# Altium integrated library Analog Devices Data Converters Digital-to-Analog Converters.IntLib: 2231 symbols (part 1 of 181)
Pins are listed as number, name and electrical type; pins without a type are passive.

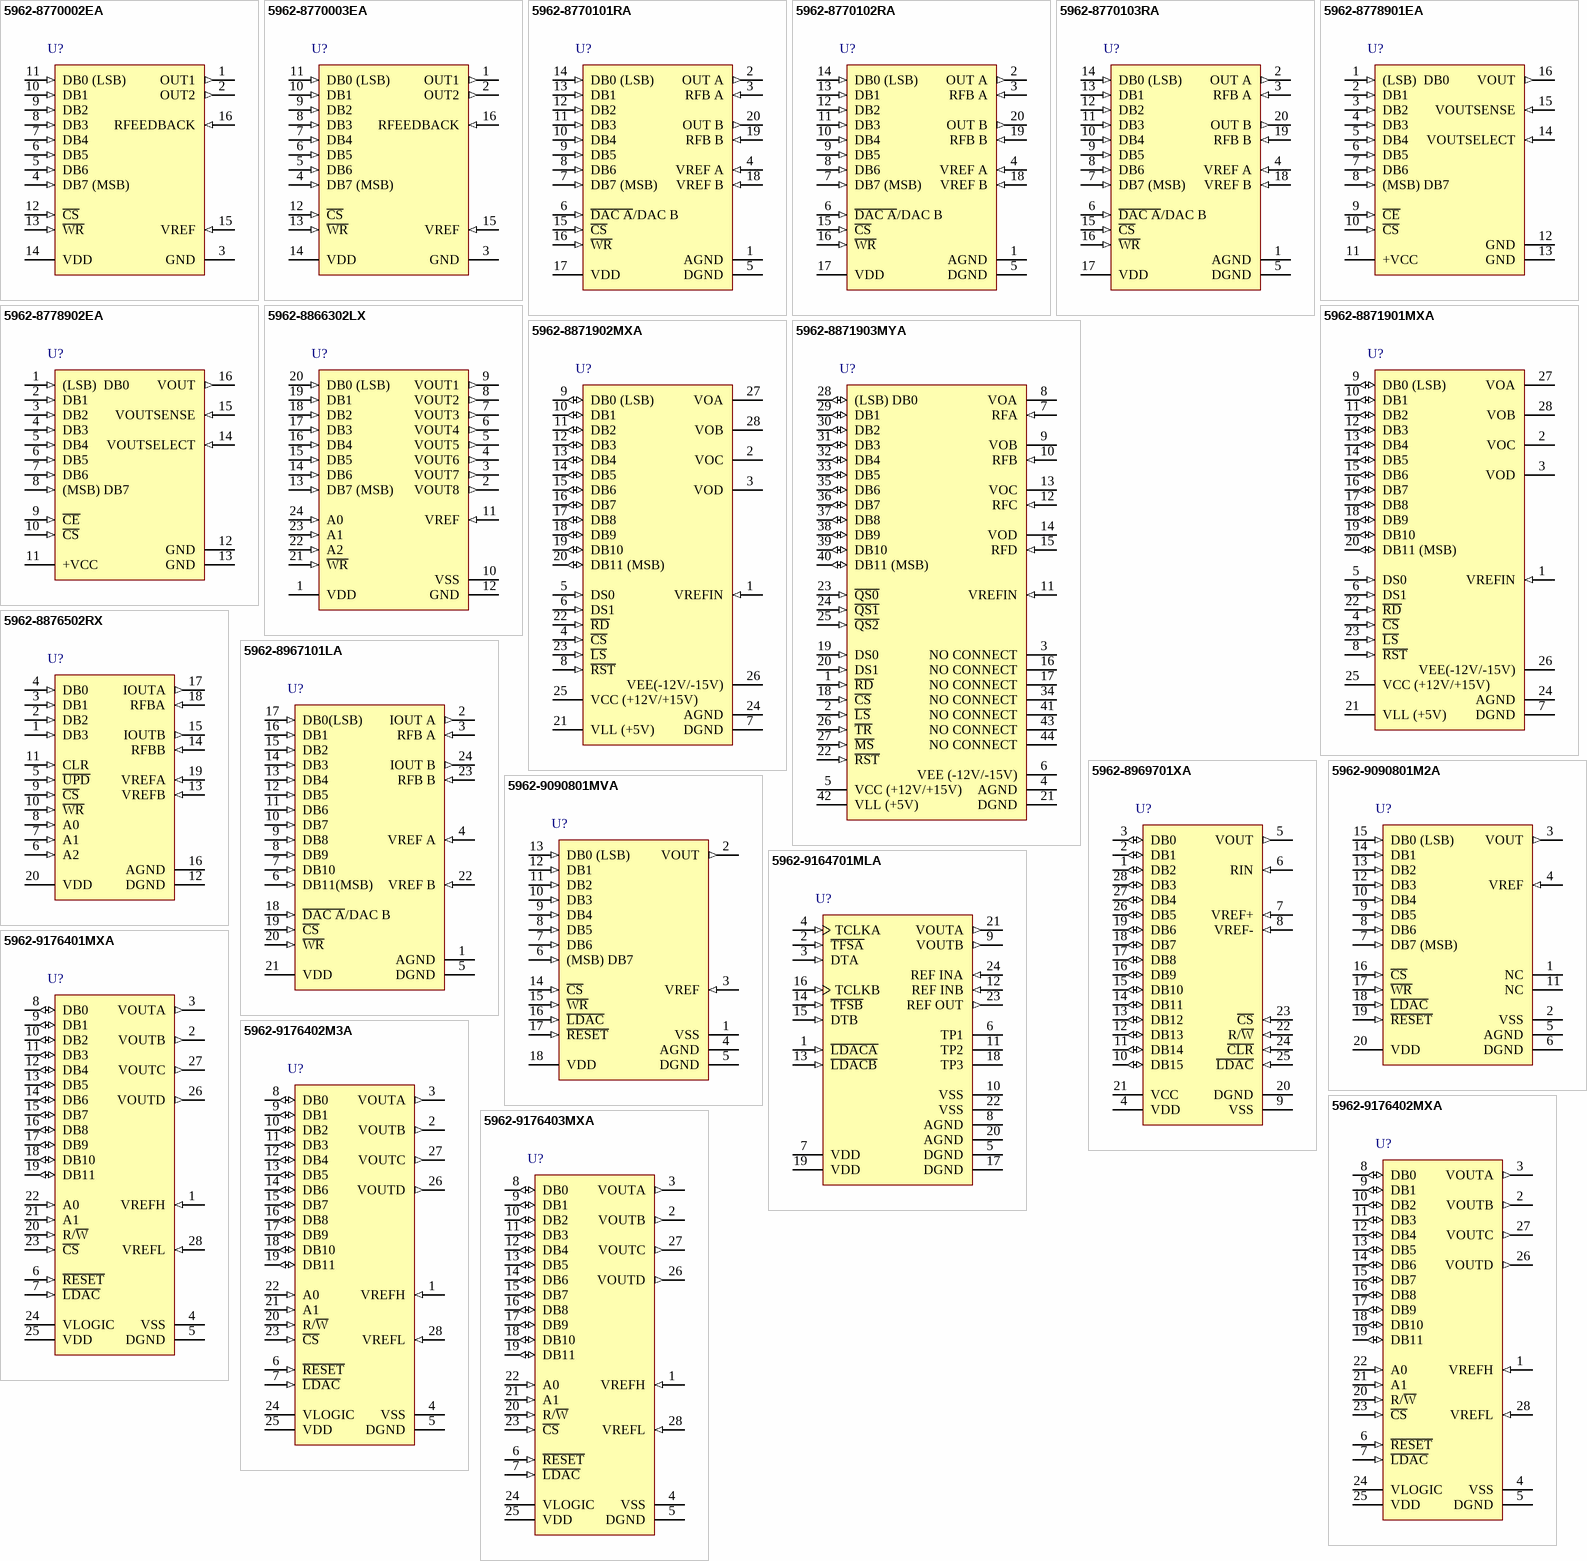
[diagram p0: symbols 5962-8770002EA to 5962-9176403MXA]

## 5962-8770002EA
designator U?
Single 8-Bit Microcircuit Monolithic Silicon Digital-to-Analog Converter, -55 to +125 degC, Q-16, Tube; Generic Part Number: AD7524; Manufacturer: Analog Devices; PartNumber: 5962-8770002EA; # DAC Outputs: 1; Max V+: 15V; Op Pwr Diss: 30mW; Resolution (Bits): 8; Settling Time: 250ns; Single Supply: Yes; DatasheetVersion: Rev.B; PackageVersion: 1996; PackageReference: Q-16; PackageDescription: DIP, 16-Pin, Skinny Dual In-line Package, 300mil Wide, Pitch 2.54 mm; Supplier 1: Mouser; Supplier Part Number 1: 584-5962-8770002EA; Packing: Tube; RoHS: N; Mounting Technology: Through Hole; ComponentLink1Description: Manufacturer URL; ComponentLink1URL: http://www.analog.com/en/index.html; ComponentLink2Description: Datasheet; ComponentLink2URL: http://www.dscc.dla.mil/downloads/milspec/smd/87700.pdf; ComponentLink3Description: Package Specification; ComponentLink3URL: http://www.analog.com/static/imported-files/packages/54083157002221Q_16.pdf; ComponentLink4Description: Product URL; ComponentLink4URL: http://www.analog.com/en/digital-to-analog-converters/da-converters/ad7524/products/product.html
footprint Q-16 (DIP, 16-Leads, Row Spacing 7.62mm, Pitch 2.54mm, Body 20.07x6.73mm)
pins: 1 OUT1 (out), 2 OUT2 (out), 3 GND (power), 4 DB7 (MSB) (in), 5 DB6 (in), 6 DB5 (in), 7 DB4 (in), 8 DB3 (in), 9 DB2 (in), 10 DB1 (in), 11 DB0 (LSB) (in), 12 ~{CS} (in), 13 ~{WR} (in), 14 VDD (power), 15 VREF (in), 16 RFEEDBACK (in)

## 5962-8770003EA
designator U?
Single 8-Bit Microcircuit Monolithic Silicon Digital-to-Analog Converter, -55 to +125 degC, Q-16, Tube; Generic Part Number: AD7524; Manufacturer: Analog Devices; PartNumber: 5962-8770003EA; # DAC Outputs: 1; Max V+: 15V; Op Pwr Diss: 30mW; Resolution (Bits): 8; Settling Time: 250ns; Single Supply: Yes; DatasheetVersion: Rev.B; PackageVersion: 1996; PackageReference: Q-16; PackageDescription: DIP, 16-Pin, Skinny Dual In-line Package, 300mil Wide, Pitch 2.54 mm; Supplier 1: Mouser; Supplier Part Number 1: 584-5962-8770003EA; Packing: Tube; RoHS: N; Mounting Technology: Through Hole; ComponentLink1Description: Manufacturer URL; ComponentLink1URL: http://www.analog.com/en/index.html; ComponentLink2Description: Datasheet; ComponentLink2URL: http://www.dscc.dla.mil/downloads/milspec/smd/87700.pdf; ComponentLink3Description: Package Specification; ComponentLink3URL: http://www.analog.com/static/imported-files/packages/54083157002221Q_16.pdf; ComponentLink4Description: Product URL; ComponentLink4URL: http://www.analog.com/en/digital-to-analog-converters/da-converters/ad7524/products/product.html
footprint Q-16 (DIP, 16-Leads, Row Spacing 7.62mm, Pitch 2.54mm, Body 20.07x6.73mm)
pins: 1 OUT1 (out), 2 OUT2 (out), 3 GND (power), 4 DB7 (MSB) (in), 5 DB6 (in), 6 DB5 (in), 7 DB4 (in), 8 DB3 (in), 9 DB2 (in), 10 DB1 (in), 11 DB0 (LSB) (in), 12 ~{CS} (in), 13 ~{WR} (in), 14 VDD (power), 15 VREF (in), 16 RFEEDBACK (in)

## 5962-8770101RA
designator U?
Dual 8-Bit Buffered Multiplying CMOS Digital-to-Analog Converter, -55 to +125 degC, Q-20, Tube; Generic Part Number: AD7528; Manufacturer: Analog Devices; PartNumber: 5962-8770101RA; # DAC Outputs: 2; Max V+: 15V; Op Pwr Diss: 30mW; Resolution (Bits): 8; Settling Time: 180ns; Single Supply: Yes; DatasheetVersion: Rev.B; PackageVersion: Dec-2004; PackageReference: Q-20; PackageDescription: 20-Lead Ceramic Dual In-Line Package [CERDIP]; Supplier 1: Mouser; Supplier Part Number 1: 584-5962-8770101RA; Packing: Tube; RoHS: N; Mounting Technology: Through Hole; ComponentLink1Description: Manufacturer URL; ComponentLink1URL: http://www.analog.com/en/index.html; ComponentLink2Description: Datasheet; ComponentLink2URL: http://www.analog.com/static/imported-files/data_sheets/AD7528.pdf; ComponentLink3Description: Package Specification; ComponentLink3URL: http://www.analog.com/static/imported-files/packages/50516416473314Q_20.pdf; ComponentLink4Description: Product URL; ComponentLink4URL: http://www.analog.com/en/digital-to-analog-converters/da-converters/ad7528/products/product.html
footprint Q-20 (DIP, 20-Leads, Row Spacing 7.62mm, Pitch 2.54mm, Body 25.9x6.7mm)
pins: 1 AGND (power), 2 OUT A (out), 3 RFB A (in), 4 VREF A (in), 5 DGND (power), 6 ~{DAC A}/DAC B (in), 7 DB7 (MSB)  (in), 8 DB6 (in), 9 DB5 (in), 10 DB4 (in), 11 DB3 (in), 12 DB2 (in), 13 DB1 (in), 14 DB0 (LSB) (in), 15 ~{CS} (in), 16 ~{WR} (in), 17 VDD (power), 18 VREF B (in), 19 RFB B (in), 20 OUT B (out)

## 5962-8770102RA
designator U?
Dual 8-Bit Buffered Multiplying CMOS Digital-to-Analog Converter, -55 to +125 degC, Q-20, Tube; Generic Part Number: AD7528; Manufacturer: Analog Devices; PartNumber: 5962-8770102RA; # DAC Outputs: 2; Max V+: 15V; Op Pwr Diss: 30mW; Resolution (Bits): 8; Settling Time: 180ns; Single Supply: Yes; DatasheetVersion: Rev.B; PackageVersion: Dec-2004; PackageReference: Q-20; PackageDescription: 20-Lead Ceramic Dual In-Line Package [CERDIP]; Supplier 1: Mouser; Supplier Part Number 1: 584-5962-8770102RA; Packing: Tube; RoHS: N; Mounting Technology: Through Hole; ComponentLink1Description: Manufacturer URL; ComponentLink1URL: http://www.analog.com/en/index.html; ComponentLink2Description: Datasheet; ComponentLink2URL: http://www.analog.com/static/imported-files/data_sheets/AD7528.pdf; ComponentLink3Description: Package Specification; ComponentLink3URL: http://www.analog.com/static/imported-files/packages/50516416473314Q_20.pdf; ComponentLink4Description: Product URL; ComponentLink4URL: http://www.analog.com/en/digital-to-analog-converters/da-converters/ad7528/products/product.html
footprint Q-20 (DIP, 20-Leads, Row Spacing 7.62mm, Pitch 2.54mm, Body 25.9x6.7mm)
pins: 1 AGND (power), 2 OUT A (out), 3 RFB A (in), 4 VREF A (in), 5 DGND (power), 6 ~{DAC A}/DAC B (in), 7 DB7 (MSB)  (in), 8 DB6 (in), 9 DB5 (in), 10 DB4 (in), 11 DB3 (in), 12 DB2 (in), 13 DB1 (in), 14 DB0 (LSB) (in), 15 ~{CS} (in), 16 ~{WR} (in), 17 VDD (power), 18 VREF B (in), 19 RFB B (in), 20 OUT B (out)

## 5962-8770103RA
designator U?
Dual 8-Bit Buffered Multiplying CMOS Digital-to-Analog Converter, -55 to +125 degC, Q-20, Tube; Generic Part Number: AD7528; Manufacturer: Analog Devices; PartNumber: 5962-8770103RA; # DAC Outputs: 2; Max V+: 15V; Op Pwr Diss: 30mW; Resolution (Bits): 8; Settling Time: 180ns; Single Supply: Yes; DatasheetVersion: Rev.B; PackageVersion: Dec-2004; PackageReference: Q-20; PackageDescription: 20-Lead Ceramic Dual In-Line Package [CERDIP]; Supplier 1: Mouser; Supplier Part Number 1: 584-5962-8770103RA; Packing: Tube; RoHS: N; Mounting Technology: Through Hole; ComponentLink1Description: Manufacturer URL; ComponentLink1URL: http://www.analog.com/en/index.html; ComponentLink2Description: Datasheet; ComponentLink2URL: http://www.analog.com/static/imported-files/data_sheets/AD7528.pdf; ComponentLink3Description: Package Specification; ComponentLink3URL: http://www.analog.com/static/imported-files/packages/50516416473314Q_20.pdf; ComponentLink4Description: Product URL; ComponentLink4URL: http://www.analog.com/en/digital-to-analog-converters/da-converters/ad7528/products/product.html
footprint Q-20 (DIP, 20-Leads, Row Spacing 7.62mm, Pitch 2.54mm, Body 25.9x6.7mm)
pins: 1 AGND (power), 2 OUT A (out), 3 RFB A (in), 4 VREF A (in), 5 DGND (power), 6 ~{DAC A}/DAC B (in), 7 DB7 (MSB)  (in), 8 DB6 (in), 9 DB5 (in), 10 DB4 (in), 11 DB3 (in), 12 DB2 (in), 13 DB1 (in), 14 DB0 (LSB) (in), 15 ~{CS} (in), 16 ~{WR} (in), 17 VDD (power), 18 VREF B (in), 19 RFB B (in), 20 OUT B (out)

## 5962-8778901EA
designator U?
Single 8-Bit Microcircuit Monolithic Silicon Digital-to-Analog Converter, -55 to +125 degC, D-16, Tube; Generic Part Number: AD558; Manufacturer: Analog Devices; PartNumber: 5962-8778901EA; # DAC Outputs: 1; Max V+: 16.5V; Op Pwr Diss: 375mW; Resolution (Bits): 8; Settling Time: 800ns; Single Supply: Yes; DatasheetVersion: Rev.C; PackageVersion: Oct-2004; PackageReference: D-16; PackageDescription: 16-Lead Side-Brazed Ceramic Dual In-Line Package [SBDIP]; Supplier 1: Mouser; Supplier Part Number 1: 584-5962-8778901EA; Packing: Tube; RoHS: N; Mounting Technology: Through Hole; ComponentLink1Description: Manufacturer URL; ComponentLink1URL: http://www.analog.com/en/index.html; ComponentLink2Description: Datasheet; ComponentLink2URL: http://www.dscc.dla.mil/Downloads/MilSpec/Smd/87789.pdf; ComponentLink3Description: Package Specification; ComponentLink3URL: http://www.analog.com/static/imported-files/packages/411773807540737148809448D_16.pdf; ComponentLink4Description: Product URL; ComponentLink4URL: http://www.analog.com/en/digital-to-analog-converters/da-converters/ad558/products/product.html
footprint D-16 (DIP, 16-Leads, Row Spacing 7.62mm, Pitch 2.54mm, Body 21.3x6.7mm)
pins: 1 (LSB)  DB0 (in), 2 DB1 (in), 3 DB2 (in), 4 DB3 (in), 5 DB4 (in), 6 DB5 (in), 7 DB6 (in), 8 (MSB) DB7 (in), 9 ~{CE} (in), 10 ~{CS} (in), 11 +VCC (power), 12 GND (power), 13 GND (power), 14 VOUTSELECT (in), 15 VOUTSENSE (in), 16 VOUT (out)

## 5962-8778902EA
designator U?
Single 8-Bit Microcircuit Monolithic Silicon Digital-to-Analog Converter, -55 to +125 degC, D-16, Tube; Generic Part Number: AD558; Manufacturer: Analog Devices; PartNumber: 5962-8778902EA; # DAC Outputs: 1; Max V+: 16.5V; Op Pwr Diss: 375mW; Resolution (Bits): 8; Settling Time: 800ns; Single Supply: Yes; DatasheetVersion: Rev.C; PackageVersion: Oct-2004; PackageReference: D-16; PackageDescription: 16-Lead Side-Brazed Ceramic Dual In-Line Package [SBDIP]; Supplier 1: Mouser; Supplier Part Number 1: 584-5962-8778902EA; Packing: Tube; RoHS: N; Mounting Technology: Through Hole; ComponentLink1Description: Manufacturer URL; ComponentLink1URL: http://www.analog.com/en/index.html; ComponentLink2Description: Datasheet; ComponentLink2URL: http://www.dscc.dla.mil/Downloads/MilSpec/Smd/87789.pdf; ComponentLink3Description: Package Specification; ComponentLink3URL: http://www.analog.com/static/imported-files/packages/411773807540737148809448D_16.pdf; ComponentLink4Description: Product URL; ComponentLink4URL: http://www.analog.com/en/digital-to-analog-converters/da-converters/ad558/products/product.html
footprint D-16 (DIP, 16-Leads, Row Spacing 7.62mm, Pitch 2.54mm, Body 21.3x6.7mm)
pins: 1 (LSB)  DB0 (in), 2 DB1 (in), 3 DB2 (in), 4 DB3 (in), 5 DB4 (in), 6 DB5 (in), 7 DB6 (in), 8 (MSB) DB7 (in), 9 ~{CE} (in), 10 ~{CS} (in), 11 +VCC (power), 12 GND (power), 13 GND (power), 14 VOUTSELECT (in), 15 VOUTSENSE (in), 16 VOUT (out)

## 5962-8866302LX
designator U?
Octal 8-Bit Microcircuit Monolithic Silicon Digital-to-Analog Converter, -55 to +125 degC, Q-24-1, Tube; Generic Part Number: AD7228; Manufacturer: Analog Devices; PartNumber: 5962-8866302LX; # DAC Outputs: 8; Max V+: 16.5V; Op Pwr Diss: 310mW; Settling Time: 5µs; Single Supply: Yes; DatasheetVersion: Rev.A; PackageVersion: 100808-A; PackageReference: Q-24-1; PackageDescription: 24-Lead Ceramic Dual In-Line Package [CERDIP]; Supplier 1: Mouser; Supplier Part Number 1: 584-5962-8866302LX; Packing: Tube; Resolution (Bits): 8; RoHS: N; Mounting Technology: Through Hole; ComponentLink1Description: Manufacturer URL; ComponentLink1URL: http://www.analog.com/en/index.html; ComponentLink2Description: Datasheet; ComponentLink2URL: http://www.dscc.dla.mil/downloads/milspec/smd/88663.pdf; ComponentLink3Description: Package Specification; ComponentLink3URL: http://www.analog.com/static/imported-files/packages/PKG_PDF/CERDIP(Q)/Q_24_1.pdf; ComponentLink4Description: Product URL; ComponentLink4URL: http://www.analog.com/en/digital-to-analog-converters/da-converters/ad7228/products/product.html
footprint Q-24-1 (DIP, 24-Leads, Row Spacing 7.62mm, Pitch 2.54mm, Body 31.9x6.7mm)
pins: 1 VDD (power), 2 VOUT8 (out), 3 VOUT7 (out), 4 VOUT6 (out), 5 VOUT5 (out), 6 VOUT4 (out), 7 VOUT3 (out), 8 VOUT2 (out), 9 VOUT1 (out), 10 VSS (power), 11 VREF (in), 12 GND (power), 13 DB7 (MSB) (in), 14 DB6 (in), 15 DB5 (in), 16 DB4 (in), 17 DB3 (in), 18 DB2 (in), 19 DB1 (in), 20 DB0 (LSB) (in), 21 ~{WR} (in), 22 A2 (in), 23 A1 (in), 24 A0 (in)

## 5962-8871901MXA
designator U?
Quad 12-Bit Monolithic Digital-to-Analog Converter, -55 to +125 degC, D-28-2, Tube; Generic Part Number: AD664; Manufacturer: Analog Devices; PartNumber: 5962-8871901MXA; # DAC Outputs: 4; Max V+: 16.5V; Op Pwr Diss: 525mW; Resolution (Bits): 12; Settling Time: 8µs; Single Supply: No; DatasheetVersion: Rev.D; PackageVersion: Oct-2004; PackageReference: D-28-2; PackageDescription: 28-Lead Side-Brazed Ceramic Dual In-Line Package [SBDIP]; Supplier 1: Mouser; Supplier Part Number 1: 584-5962-8871901MXA; Packing: Tube; RoHS: N; Mounting Technology: Through Hole; ComponentLink1Description: Manufacturer URL; ComponentLink1URL: http://www.analog.com/en/index.html; ComponentLink2Description: Datasheet; ComponentLink2URL: http://www.analog.com/static/imported-files/data_sheets/AD664.pdf; ComponentLink3Description: Package Specification; ComponentLink3URL: http://www.analog.com/static/imported-files/packages/28824602D_28_2.pdf; ComponentLink4Description: Product URL; ComponentLink4URL: http://www.analog.com/en/digital-to-analog-converters/da-converters/ad664/products/product.html
footprint D-28-2 (DIP, 28-Leads, Row Spacing 15.24mm, Pitch 2.54mm, Body 37.2x14.1mm)
pins: 1 VREFIN (in), 2 VOC (hiz), 3 VOD (hiz), 4 ~{CS} (in), 5 DS0 (in), 6 DS1 (in), 7 DGND (power), 8 ~{RST} (in), 9 DB0 (LSB) (io), 10 DB1 (io), 11 DB2 (io), 12 DB3 (io), 13 DB4 (io), 14 DB5 (io), 15 DB6 (io), 16 DB7 (io), 17 DB8 (io), 18 DB9 (io), 19 DB10 (io), 20 DB11 (MSB) (io), 21 VLL (+5V) (power), 22 ~{RD} (in), 23 ~{LS} (in), 24 AGND (power), 25 VCC (+12V/+15V) (power), 26 VEE(-12V/-15V) (power), 27 VOA (hiz), 28 VOB (hiz)

## 5962-8871902MXA
designator U?
Quad 12-Bit Monolithic Digital-to-Analog Converter, -55 to +125 degC, D-28-2, Tube; Generic Part Number: AD664; Manufacturer: Analog Devices; PartNumber: 5962-8871902MXA; # DAC Outputs: 4; Max V+: 16.5V; Op Pwr Diss: 525mW; Resolution (Bits): 12; Settling Time: 8µs; Single Supply: No; DatasheetVersion: Rev.D; PackageVersion: Oct-2004; PackageReference: D-28-2; PackageDescription: 28-Lead Side-Brazed Ceramic Dual In-Line Package [SBDIP]; Supplier 1: Mouser; Supplier Part Number 1: 584-5962-8871902MXA; Packing: Tube; RoHS: N; Mounting Technology: Through Hole; ComponentLink1Description: Manufacturer URL; ComponentLink1URL: http://www.analog.com/en/index.html; ComponentLink2Description: Datasheet; ComponentLink2URL: http://www.analog.com/static/imported-files/data_sheets/AD664.pdf; ComponentLink3Description: Package Specification; ComponentLink3URL: http://www.analog.com/static/imported-files/packages/28824602D_28_2.pdf; ComponentLink4Description: Product URL; ComponentLink4URL: http://www.analog.com/en/digital-to-analog-converters/da-converters/ad664/products/product.html
footprint D-28-2 (DIP, 28-Leads, Row Spacing 15.24mm, Pitch 2.54mm, Body 37.2x14.1mm)
pins: 1 VREFIN (in), 2 VOC (hiz), 3 VOD (hiz), 4 ~{CS} (in), 5 DS0 (in), 6 DS1 (in), 7 DGND (power), 8 ~{RST} (in), 9 DB0 (LSB) (io), 10 DB1 (io), 11 DB2 (io), 12 DB3 (io), 13 DB4 (io), 14 DB5 (io), 15 DB6 (io), 16 DB7 (io), 17 DB8 (io), 18 DB9 (io), 19 DB10 (io), 20 DB11 (MSB) (io), 21 VLL (+5V) (power), 22 ~{RD} (in), 23 ~{LS} (in), 24 AGND (power), 25 VCC (+12V/+15V) (power), 26 VEE(-12V/-15V) (power), 27 VOA (hiz), 28 VOB (hiz)

## 5962-8871903MYA
designator U?
Quad 12-Bit Monolithic Digital-to-Analog Converter, -55 to +125 degC, E-44-1, Tube; Generic Part Number: AD664; Manufacturer: Analog Devices; PartNumber: 5962-8871903MYA; # DAC Outputs: 4; Max V+: 16.5V; Op Pwr Diss: 525mW; Resolution (Bits): 12; Settling Time: 8µs; Single Supply: No; DatasheetVersion: Rev.D; PackageVersion: 022106-A; PackageReference: E-44-1; PackageDescription: 44-Terminal Ceramic Leadless Chip Carrier [LCC]; Supplier 1: Mouser; Supplier Part Number 1: 584-5962-8871903MYA; Packing: Tube; RoHS: N; Mounting Technology: Surface Mount; ComponentLink1Description: Manufacturer URL; ComponentLink1URL: http://www.analog.com/en/index.html; ComponentLink2Description: Datasheet; ComponentLink2URL: http://www.analog.com/static/imported-files/data_sheets/AD664.pdf; ComponentLink3Description: Package Specification; ComponentLink3URL: http://www.analog.com/static/imported-files/packages/PKG_PDF/LCC(E)/E_44_1.pdf; ComponentLink4Description: Product URL; ComponentLink4URL: http://www.analog.com/en/digital-to-analog-converters/da-converters/ad664/products/product.html
footprint E-44-1_N (Leadless Chip Carrier, 44-Leads, Body 16.5x16.5mm, Pitch 1.27mm, IPC Medium Density)
footprint E-44-1_L (Leadless Chip Carrier, 44-Leads, Body 16.5x16.5mm, Pitch 1.27mm, IPC High Density)
footprint E-44-1_M (Leadless Chip Carrier, 44-Leads, Body 16.5x16.5mm, Pitch 1.27mm, IPC Low Density)
pins: 1 ~{RD} (in), 2 ~{LS} (in), 3 NO CONNECT, 4 AGND (power), 5 VCC (+12V/+15V) (power), 6 VEE (-12V/-15V) (power), 7 RFA (in), 8 VOA (hiz), 9 VOB (hiz), 10 RFB (in), 11 VREFIN (in), 12 RFC (in), 13 VOC (hiz), 14 VOD (hiz), 15 RFD (in), 16 NO CONNECT, 17 NO CONNECT, 18 ~{CS} (in), 19 DS0 (in), 20 DS1 (in), 21 DGND (power), 22 ~{RST} (in), 23 ~{QS0} (in), 24 ~{QS1} (in), 25 ~{QS2} (in), 26 ~{TR} (in), 27 ~{MS} (in), 28 (LSB) DB0 (io), 29 DB1 (io), 30 DB2 (io), 31 DB3 (io), 32 DB4 (io), 33 DB5 (io), 34 NO CONNECT, 35 DB6 (io), 36 DB7 (io), 37 DB8 (io), 38 DB9 (io), 39 DB10 (io), 40 DB11 (MSB) (io), 41 NO CONNECT, 42 VLL (+5V) (power), 43 NO CONNECT, 44 NO CONNECT

## 5962-8876502RX
designator U?
Dual 12-Bit uP-Compatible Digital-to-Analog Converter, -55 to +125 degC, N-28-2, Tube; Generic Part Number: AD7549; Manufacturer: Analog Devices; PartNumber: 5962-8876502RX; # DAC Outputs: 2; Max V+: 15.75V; Op Pwr Diss: 75mW; Resolution (Bits): 12; Settling Time: 1.5µs; Single Supply: Yes; DatasheetVersion: Rev.A; PackageVersion: 071006-A; PackageReference: N-28-2; PackageDescription: 28-Lead Plastic Dual In-Line Package [PDIP]; Supplier 1: Mouser; Supplier Part Number 1: 584-5962-8876502RX; Packing: Tube; RoHS: N; Mounting Technology: Through Hole; Code_JEDEC: MS-011; ComponentLink1Description: Manufacturer URL; ComponentLink1URL: http://www.analog.com/en/index.html; ComponentLink2Description: Datasheet; ComponentLink2URL: http://www.analog.com/static/imported-files/data_sheets/AD7549.pdf; ComponentLink3Description: Package Specification; ComponentLink3URL: http://www.analog.com/static/imported-files/packages/50849324123784N_28_2.pdf; ComponentLink4Description: Product URL; ComponentLink4URL: http://www.analog.com/en/digital-to-analog-converters/da-converters/ad7549/products/product.html
footprint N-28-2 (DIP, 28-Leads, Row Spacing 15.55mm, Pitch 2.54mm, Body 37.4x13.5mm)
pins: 1 DB3 (in) "Data Bit 3, Data Bit 7 or Data Bit 11(MSB)", 2 DB2 (in) "Data Bit 2, Data Bit 6 or Data Bit 10.", 3 DB1 (in) "Data Bit 1, Data Bit 5 or Data Bit 9.", 4 DB0 (in) "Data Bit 0, Data Bit 4 or Data Bit 8.", 5 ~{UPD} (in) "Updates DAC Registers from 4-bit input registers. DAC A and DAC B both updated simultaneously.", 6 A2 (in) "Address line 2.", 7 A1 (in) "Address line 1.", 8 A0 (in) "Address line 0.", 9 ~{CS} (in) "Chip Select Input. Active low.", 10 ~{WR} (in) "Write Input. Active low.", 11 CLR (in) "Clear Input. Active High. Clears all registers.", 12 DGND (power) "Digital Ground.", 13 VREFB (in) "Voltage reference input to DAC B.", 14 RFBB (in) "Feedback resistor of DAC B.", 15 IOUTB (out) "Current output terminal of DAC B.", 16 AGND (power) "Analog ground.", 17 IOUTA (out) "Current output terminal of DAC A.", 18 RFBA (in) "Feedback resistor of DAC A.", 19 VREFA (in) "Voltage reference input to DAC A.", 20 VDD (power) "+15 V supply input."

## 5962-8967101LA
designator U?
Dual 12-Bit Microcircuit Buffered Multiplying Digital-to-Analog Converter, -40 to +85 degC, Q-24-1, Tube; Generic Part Number: DAC8221; Manufacturer: Analog Devices; PartNumber: 5962-8967101LA; # DAC Outputs: 2; Max V+: 15.75V; Op Pwr Diss: 5mW; Resolution (Bits): 12; Settling Time: 450ns; Single Supply: Yes; DatasheetVersion: Rev.B; PackageVersion: 100808-A; PackageReference: Q-24-1; PackageDescription: 24-Lead Ceramic Dual In-Line Package [CERDIP]; Supplier 1: Mouser; Supplier Part Number 1: 584-5962-8967101LA; Packing: Tube; RoHS: N; Mounting Technology: Through Hole; ComponentLink1Description: Manufacturer URL; ComponentLink1URL: http://www.analog.com/en/index.html; ComponentLink2Description: Datasheet; ComponentLink2URL: http://www.dscc.dla.mil/Downloads/MilSpec/Smd/89671.pdf; ComponentLink3Description: Package Specification; ComponentLink3URL: http://www.analog.com/static/imported-files/packages/PKG_PDF/CERDIP(Q)/Q_24_1.pdf; ComponentLink4Description: Product URL; ComponentLink4URL: http://www.analog.com/en/digital-to-analog-converters/da-converters/dac8221/products/product.html
footprint Q-24-1 (DIP, 24-Leads, Row Spacing 7.62mm, Pitch 2.54mm, Body 31.9x6.7mm)
pins: 1 AGND (power), 2 IOUT A (out), 3 RFB A (in), 4 VREF A (in), 5 DGND (power), 6 DB11(MSB)  (in), 7 DB10 (in), 8 DB9 (in), 9 DB8 (in), 10 DB7 (in), 11 DB6 (in), 12 DB5 (in), 13 DB4 (in), 14 DB3 (in), 15 DB2 (in), 16 DB1 (in), 17 DB0(LSB) (in), 18 ~{DAC A}/DAC B (in), 19 ~{CS} (in), 20 ~{WR} (in), 21 VDD (power), 22 VREF B (in), 23 RFB B (in), 24 IOUT B (out)

## 5962-8969701XA
designator U?
Single 16-Bit Microcircuit Monolithic Silicon Digital-to-Analog Converter, -55 to +125 degC, Q-28-2, Tube; Generic Part Number: AD7846; Manufacturer: Analog Devices; PartNumber: 5962-8969701XA; # DAC Outputs: 1; Max V+: 15.75V; Op Pwr Diss: 155mW; Resolution (Bits): 16; Settling Time: 7µs; Single Supply: No; DatasheetVersion: Rev.B; PackageVersion: 030106-A; PackageReference: Q-28-2; PackageDescription: 28-Lead Ceramic Dual In-Line Package [CERDIP]; Supplier 1: Mouser; Supplier Part Number 1: 584-5962-8969701XA; Packing: Tube; RoHS: N; Mounting Technology: Through Hole; ComponentLink1Description: Manufacturer URL; ComponentLink1URL: http://www.analog.com/en/index.html; ComponentLink2Description: Datasheet; ComponentLink2URL: http://www.dscc.dla.mil/downloads/milspec/smd/89697.pdf; ComponentLink3Description: Package Specification; ComponentLink3URL: http://www.analog.com/static/imported-files/packages/4045339666127361303Q_28_2.pdf; ComponentLink4Description: Product URL; ComponentLink4URL: http://www.analog.com/en/digital-to-analog-converters/da-converters/ad7846/products/product.html
footprint Q-28-2 (DIP, 28-Leads, Row Spacing 15.24mm, Pitch 2.54mm, Body 37.2x14.1mm)
pins: 1 DB2 (io) "Data I/O.", 2 DB1 (io) "Data I/O.", 3 DB0 (io) "Data I/O. DB0 is LSB.", 4 VDD (power) "Positive Supply for Analog Circuitry. This is +15 V nominal.", 5 VOUT (out) "DAC Output Voltage.", 6 RIN (in) "Input to Summing Resistor of DAC Output Amplifier. This is used to select output voltage ranges.", 7 VREF+ (in) "VREF+ Input. The DAC is specified for VREF+ = +5 V.", 8 VREF- (in) "VREF- Input. For unipolar operation connect VREF- to 0 V, and for bipolar operation connect it to -5 V. The device is specified for both conditions.", 9 VSS (power) "Negative Supply for the Analog Circuitry. This is -15 V nominal.", 10 DB15 (io) "Data I/O. DB15 is MSB.", 11 DB14 (io) "Data I/O.", 12 DB13 (io) "Data I/O.", 13 DB12 (io) "Data I/O.", 14 DB11 (io) "Data I/O.", 15 DB10 (io) "Data I/O.", 16 DB9 (io) "Data I/O.", 17 DB8 (io) "Data I/O.", 18 DB7 (io) "Data I/O.", 19 DB6 (io) "Data I/O.", 20 DGND (power) "Ground for Digital Circuitry.", 21 VCC (power) "Positive Supply for Digital Circuitry. This is +5 V nominal.", 22 R/~{W} (in) "R/W\ Input. This pin can be used to load data to the DAC or to read back the DAC latch contents.", 23 ~{CS} (in) "Chip Select Input. This pin selects the device.", 24 ~{CLR} (in) "Clear Input. The DAC can be cleared to 000...000 or 100...000.", 25 ~{LDAC} (in) "Asynchronous Load Input to DAC.", 26 DB5 (io) "Data I/O.", 27 DB4 (io) "Data I/O.", 28 DB3 (io) "Data I/O."

## 5962-9090801M2A
designator U?
Single 8-Bit LC2MOS Digital-to-Analog Converter with Output Amplifiers, 0 to +70 degC, E-20-1, Tube; Generic Part Number: AD7224; Manufacturer: Analog Devices; PartNumber: 5962-9090801M2A; # DAC Outputs: 1; Max V+: 16.5V; Op Pwr Diss: 75mW; Resolution (Bits): 8; Settling Time: 7µs; Single Supply: Yes; DatasheetVersion: Rev.B; PackageVersion: 022106-A; PackageReference: E-20-1; PackageDescription: 20-Terminal Ceramic Leadless Chip Carrier [LCC]; Supplier 1: Mouser; Supplier Part Number 1: 584-5962-9090801M2A; Packing: Tube; RoHS: N; Mounting Technology: Surface Mount; ComponentLink1Description: Manufacturer URL; ComponentLink1URL: http://www.analog.com/en/index.html; ComponentLink2Description: Datasheet; ComponentLink2URL: http://www.analog.com/static/imported-files/data_sheets/AD7224.pdf; ComponentLink3Description: Package Specification; ComponentLink3URL: http://www.analog.com/static/imported-files/packages/PKG_PDF/LCC(E)/E_20_1.pdf; ComponentLink4Description: Product URL; ComponentLink4URL: http://www.analog.com/en/digital-to-analog-converters/da-converters/ad7224/products/product.html
footprint E-20-1_N (Leadless Chip Carrier, 20-Leads, Body 8.9x8.9mm, Pitch 1.27mm, IPC Medium Density)
footprint E-20-1_L (Leadless Chip Carrier, 20-Leads, Body 8.9x8.9mm, Pitch 1.27mm, IPC High Density)
footprint E-20-1_M (Leadless Chip Carrier, 20-Leads, Body 8.9x8.9mm, Pitch 1.27mm, IPC Low Density)
pins: 1 NC, 2 VSS (power), 3 VOUT (out), 4 VREF (in), 5 AGND (power), 6 DGND (power), 7 DB7 (MSB)  (in), 8 DB6 (in), 9 DB5 (in), 10 DB4 (in), 11 NC, 12 DB3 (in), 13 DB2 (in), 14 DB1 (in), 15 DB0 (LSB) (in), 16 ~{CS} (in), 17 ~{WR} (in), 18 ~{LDAC} (in), 19 ~{RESET} (in), 20 VDD (power)

## 5962-9090801MVA
designator U?
Single 8-Bit LC2MOS Digital-to-Analog Converter with Output Amplifiers, 0 to +70 degC, Q-18, Tube; Generic Part Number: AD7224; Manufacturer: Analog Devices; PartNumber: 5962-9090801MVA; # DAC Outputs: 1; Max V+: 16.5V; Op Pwr Diss: 75mW; Resolution (Bits): 8; Settling Time: 7µs; Single Supply: Yes; DatasheetVersion: Rev.B; PackageReference: Q-18; PackageDescription: DIP, Ceramic, 18-Pin, Skinny Dual In-line Package, 300mil Wide, Pitch 2.54 mm; Supplier 1: Mouser; Supplier Part Number 1: 584-5962-9090801MVA; Packing: Tube; RoHS: N; Mounting Technology: Through Hole; ComponentLink1Description: Manufacturer URL; ComponentLink1URL: http://www.analog.com/en/index.html; ComponentLink2Description: Datasheet; ComponentLink2URL: http://www.analog.com/static/imported-files/data_sheets/AD7224.pdf; ComponentLink3Description: Package Specification; ComponentLink3URL: http://www.analog.com/static/imported-files/packages/3949539816247344490Q_18.pdf; ComponentLink4Description: Product URL; ComponentLink4URL: http://www.analog.com/en/digital-to-analog-converters/da-converters/ad7224/products/product.html
footprint Q-18 (DIP, 18-Leads, Row Spacing 7.62mm, Pitch 2.54mm, Body 24.13x6.73mm)
pins: 1 VSS (power), 2 VOUT (out), 3 VREF (in), 4 AGND (power), 5 DGND (power), 6 (MSB) DB7 (in), 7 DB6 (in), 8 DB5 (in), 9 DB4 (in), 10 DB3 (in), 11 DB2 (in), 12 DB1 (in), 13 DB0 (LSB) (in), 14 ~{CS} (in), 15 ~{WR} (in), 16 ~{LDAC} (in), 17 ~{RESET} (in), 18 VDD (power)

## 5962-9164701MLA
designator U?
Dual 14-Bit LC2MOS Digital-to-Analog Converter, -55 to +125 degC, Q-24-1, Tube; Generic Part Number: AD7244; Manufacturer: Analog Devices; PartNumber: 5962-9164701MLA; # DAC Outputs: 2; Max V+: 5.25V; Op Pwr Diss: 195mW; Resolution (Bits): 14; Settling Time: 4µs; Single Supply: No; DatasheetVersion: Rev.A; PackageVersion: 100808-A; PackageReference: Q-24-1; PackageDescription: 24-Lead Ceramic Dual In-Line Package [CERDIP]; Supplier 1: Mouser; Supplier Part Number 1: 584-5962-9164701MLA; Packing: Tube; RoHS: N; Mounting Technology: Through Hole; ComponentLink1Description: Manufacturer URL; ComponentLink1URL: http://www.analog.com/en/index.html; ComponentLink2Description: Datasheet; ComponentLink2URL: http://www.analog.com/static/imported-files/data_sheets/AD7242_7244.pdf; ComponentLink3Description: Package Specification; ComponentLink3URL: http://www.analog.com/static/imported-files/packages/PKG_PDF/CERDIP(Q)/Q_24_1.pdf; ComponentLink4Description: Product URL; ComponentLink4URL: http://www.analog.com/en/digital-to-analog-converters/da-converters/ad7244/products/product.html
footprint Q-24-1 (DIP, 24-Leads, Row Spacing 7.62mm, Pitch 2.54mm, Body 31.9x6.7mm)
pins: 1 ~{LDACA} (in) "Load DAC, Logic Input. A new word is transferred into DAC Latch A from input Latch A on the falling edge of this signal. If L\D\A\C\A\ is hard-wired low, data is transferred from input Latch A to DAC Latch A on the sixteenth (See Datasheet)", 2 ~{TFSA} (in) "Transmit Frame Synchronization, Logic Input. This is a frame or synchronization signal for DACA data with serial data expected after the falling edge of this signal.", 3 DTA (in) "Transmit Data, Logic Input. This is the data input which is used in conjunction with T\F\S\A\ and TCLKA to transfer serial data to input Latch A.", 4 TCLKA (in) "Transmit Clock, Logic Input. Serial data bits for DACA are latched on the falling edge of TCLKA when T\F\S\A\ is low.", 5 DGND (power) "Digital Ground. Both DGND pins for the device must be tied together at the device.", 6 TP1 "Test Pin 1. Used when testing the device. Do not connect anything to this pin.", 7 VDD (power) "Positive Power Supply, 5 V +/- 5%. Both VDD pins for the device must be tied together at the device.", 8 AGND (power) "Analog Ground. Both AGND pins for the device must be tied together at the device.", 9 VOUTB (out) "Analog Output Voltage from DACB. This output comes from a buffer amplifier. The range is bipolar, +/-3 V with REF INB = +3 V.", 10 VSS (power) "Negative Power Supply, -5 V +/- 5%. Both VSS pins for the device must be tied together at the device.", 11 TP2 "Test Pin 2. Used when testing the device. Do not connect anything to this pin.", 12 REF INB (in) "DACB Voltage Reference Input. The voltage reference for DACB is applied to this pin. It is internally buffered before being applied to DACB. The nominal reference voltage for correct operation of the AD7244 is 3 V.", 13 ~{LDACB} (in) "Load DAC, Logic Input. A new word is transferred into DAC Latch B from input Latch B on the falling edge of this signal. If L\D\A\C\B\ is hard-wired low, data is transferred from input Latch B to DAC Latch B on the sixteenth (See Datasheet)", 14 ~{TFSB} (in) "Transmit Frame Synchronization, Logic Input. This is a frame or synchronization signal for DACB data with serial data expected after the falling edge of this signal.", 15 DTB (in) "Transmit Data, Logic Input. This is the data input used in conjunction with T\F\S\B\ and TCLKB to transfer serial data to input Latch B.", 16 TCLKB (in) "Transmit Clock, Logic Input. Serial data bits for DACB are latched on the falling edge of TCLKB when T\F\S\B\ is low.", 17 DGND (power) "Digital Ground. Both DGND pins for the device must be tied together at the device.", 18 TP3 "Test Pin 3. Used when testing the device. Do not connect anything to this pin.", 19 VDD (power) "Positive Power Supply, 5 V +/- 5%. Both VDD pins for the device must be tied together at the device.", 20 AGND (power) "Analog Ground. Both AGND pins for the device must be tied together at the device.", 21 VOUTA (out) "Analog Output Voltage from DACA. This output comes from a buffer amplifier. The range is bipolar, +/-3 V with REF INA = +3 V.", 22 VSS (power) "Negative Power Supply, -5 V +/- 5%. Both VSS pins for the device must be tied together at the device.", 23 REF OUT (out) "Voltage Reference Output. To operate the DACs with this internal reference, REF OUT should be connected to both REF INA and REF INB. The external load capability of the reference is 500 uA.", 24 REF INA (in) "DACA Voltage Reference Input. The voltage reference for DACA is applied to this pin. It is internally buffered before being applied to DACA. The nominal reference voltage for correct operation of the AD7244 is 3 V."

## 5962-9176401MXA
designator U?
Quad 12-Bit Microcircuit Digital-Liner Digital-to-Analog Converter, -55 to +125 degC, Q-28-2, Tube; Generic Part Number: DAC8412; Manufacturer: Analog Devices; PartNumber: 5962-9176401MXA; # DAC Outputs: 4; Max V+: 15.75V; Op Pwr Diss: 330mW; Resolution (Bits): 12; Settling Time: 6µs; Single Supply: No; DatasheetVersion: Rev.B; PackageVersion: 030106-A; PackageReference: Q-28-2; PackageDescription: 28-Lead Ceramic Dual In-Line Package [CERDIP]; Supplier 1: Mouser; Supplier Part Number 1: 584-5962-9176401MXA; Packing: Tube; RoHS: N; Mounting Technology: Through Hole; ComponentLink1Description: Manufacturer URL; ComponentLink1URL: http://www.analog.com/en/index.html; ComponentLink2Description: Datasheet; ComponentLink2URL: http://www.dscc.dla.mil/Downloads/MilSpec/Smd/91764.pdf; ComponentLink3Description: Package Specification; ComponentLink3URL: http://www.analog.com/static/imported-files/packages/4045339666127361303Q_28_2.pdf; ComponentLink4Description: Product URL; ComponentLink4URL: http://www.analog.com/en/digital-to-analog-converters/da-converters/dac8412/products/product.html
footprint Q-28-2 (DIP, 28-Leads, Row Spacing 15.24mm, Pitch 2.54mm, Body 37.2x14.1mm)
pins: 1 VREFH (in) "High-Side DAC Reference Input.", 2 VOUTB (out) "DAC B Output.", 3 VOUTA (out) "DAC A Output.", 4 VSS (power) "Lower Rail Power Supply.", 5 DGND (power) "Digital Ground.", 6 ~{RESET} (in) "Reset Input and Output Registers to all 0s, Enabled at Active Low.", 7 ~{LDAC} (in) "Load Data to DAC, Enabled at Active Low.", 8 DB0 (io) "Data Bit 0, LSB.", 9 DB1 (io) "Data Bit 1.", 10 DB2 (io) "Data Bit 2.", 11 DB3 (io) "Data Bit 3.", 12 DB4 (io) "Data Bit 4.", 13 DB5 (io) "Data Bit 5.", 14 DB6 (io) "Data Bit 6.", 15 DB7 (io) "Data Bit 7.", 16 DB8 (io) "Data Bit 8.", 17 DB9 (io) "Data Bit 9.", 18 DB10 (io) "Data Bit 10.", 19 DB11 (io) "Data Bit 11, MSB.", 20 R/~{W} (in) "Active Low to Write Data to DAC. Active high to readback previous data at data bit pins with VLOGIC connected to 5 V.", 21 A1 (in) "Address Bit 1.", 22 A0 (in) "Address Bit 0.", 23 ~{CS} (in) "Chip Select, Enabled at Active Low.", 24 VLOGIC (power) "Voltage Supply for Readback Function. Can be open circuit if not used.", 25 VDD (power) "Upper Rail Power Supply.", 26 VOUTD (out) "DAC D Output.", 27 VOUTC (out) "DAC C Output.", 28 VREFL (in) "Low-Side DAC Reference Input."

## 5962-9176402M3A
designator U?
Quad 12-Bit Microcircuit Digital-Liner Digital-to-Analog Converter, -55 to +125 degC, E-28-1, Tube; Generic Part Number: DAC8412; Manufacturer: Analog Devices; PartNumber: 5962-9176402M3A; # DAC Outputs: 4; Max V+: 15.75V; Op Pwr Diss: 330mW; Resolution (Bits): 12; Settling Time: 6µs; Single Supply: No; DatasheetVersion: Rev.B; PackageVersion: 022106-A; PackageReference: E-28-1; PackageDescription: 28-Terminal Ceramic Leadless Chip Carrier [LCC]; Supplier 1: Mouser; Supplier Part Number 1: 584-5962-9176402M3A; Packing: Tube; RoHS: N; Mounting Technology: Surface Mount; ComponentLink1Description: Manufacturer URL; ComponentLink1URL: http://www.analog.com/en/index.html; ComponentLink2Description: Datasheet; ComponentLink2URL: http://www.dscc.dla.mil/Downloads/MilSpec/Smd/91764.pdf; ComponentLink3Description: Package Specification; ComponentLink3URL: http://www.analog.com/static/imported-files/packages/PKG_PDF/LCC(E)/E_28_1.pdf; ComponentLink4Description: Product URL; ComponentLink4URL: http://www.analog.com/en/digital-to-analog-converters/da-converters/dac8412/products/product.html
footprint E-28-1_N (Leadless Chip Carrier, 28-Leads, Body 11.4x11.4mm, Pitch 1.27mm, IPC Medium Density)
footprint E-28-1_L (Leadless Chip Carrier, 28-Leads, Body 11.4x11.4mm, Pitch 1.27mm, IPC High Density)
footprint E-28-1_M (Leadless Chip Carrier, 28-Leads, Body 11.4x11.4mm, Pitch 1.27mm, IPC Low Density)
pins: 1 VREFH (in) "High-Side DAC Reference Input.", 2 VOUTB (out) "DAC B Output.", 3 VOUTA (out) "DAC A Output.", 4 VSS (power) "Lower Rail Power Supply.", 5 DGND (power) "Digital Ground.", 6 ~{RESET} (in) "Reset Input and Output Registers to all 0s, Enabled at Active Low.", 7 ~{LDAC} (in) "Load Data to DAC, Enabled at Active Low.", 8 DB0 (io) "Data Bit 0, LSB.", 9 DB1 (io) "Data Bit 1.", 10 DB2 (io) "Data Bit 2.", 11 DB3 (io) "Data Bit 3.", 12 DB4 (io) "Data Bit 4.", 13 DB5 (io) "Data Bit 5.", 14 DB6 (io) "Data Bit 6.", 15 DB7 (io) "Data Bit 7.", 16 DB8 (io) "Data Bit 8.", 17 DB9 (io) "Data Bit 9.", 18 DB10 (io) "Data Bit 10.", 19 DB11 (io) "Data Bit 11, MSB.", 20 R/~{W} (in) "Active Low to Write Data to DAC. Active high to readback previous data at data bit pins with VLOGIC connected to 5 V.", 21 A1 (in) "Address Bit 1.", 22 A0 (in) "Address Bit 0.", 23 ~{CS} (in) "Chip Select, Enabled at Active Low.", 24 VLOGIC (power) "Voltage Supply for Readback Function. Can be open circuit if not used.", 25 VDD (power) "Upper Rail Power Supply.", 26 VOUTD (out) "DAC D Output.", 27 VOUTC (out) "DAC C Output.", 28 VREFL (in) "Low-Side DAC Reference Input."

## 5962-9176402MXA
designator U?
Quad 12-Bit Microcircuit Digital-Liner Digital-to-Analog Converter, -55 to +125 degC, Q-28-2, Tube; Generic Part Number: DAC8412; Manufacturer: Analog Devices; PartNumber: 5962-9176402MXA; # DAC Outputs: 4; Max V+: 15.75V; Op Pwr Diss: 330mW; Resolution (Bits): 12; Settling Time: 6µs; Single Supply: No; DatasheetVersion: Rev.B; PackageVersion: 030106-A; PackageReference: Q-28-2; PackageDescription: 28-Lead Ceramic Dual In-Line Package [CERDIP]; Supplier 1: Mouser; Supplier Part Number 1: 584-5962-9176402MXA; Packing: Tube; RoHS: N; Mounting Technology: Through Hole; ComponentLink1Description: Manufacturer URL; ComponentLink1URL: http://www.analog.com/en/index.html; ComponentLink2Description: Datasheet; ComponentLink2URL: http://www.dscc.dla.mil/Downloads/MilSpec/Smd/91764.pdf; ComponentLink3Description: Package Specification; ComponentLink3URL: http://www.analog.com/static/imported-files/packages/4045339666127361303Q_28_2.pdf; ComponentLink4Description: Product URL; ComponentLink4URL: http://www.analog.com/en/digital-to-analog-converters/da-converters/dac8412/products/product.html
footprint Q-28-2 (DIP, 28-Leads, Row Spacing 15.24mm, Pitch 2.54mm, Body 37.2x14.1mm)
pins: 1 VREFH (in) "High-Side DAC Reference Input.", 2 VOUTB (out) "DAC B Output.", 3 VOUTA (out) "DAC A Output.", 4 VSS (power) "Lower Rail Power Supply.", 5 DGND (power) "Digital Ground.", 6 ~{RESET} (in) "Reset Input and Output Registers to all 0s, Enabled at Active Low.", 7 ~{LDAC} (in) "Load Data to DAC, Enabled at Active Low.", 8 DB0 (io) "Data Bit 0, LSB.", 9 DB1 (io) "Data Bit 1.", 10 DB2 (io) "Data Bit 2.", 11 DB3 (io) "Data Bit 3.", 12 DB4 (io) "Data Bit 4.", 13 DB5 (io) "Data Bit 5.", 14 DB6 (io) "Data Bit 6.", 15 DB7 (io) "Data Bit 7.", 16 DB8 (io) "Data Bit 8.", 17 DB9 (io) "Data Bit 9.", 18 DB10 (io) "Data Bit 10.", 19 DB11 (io) "Data Bit 11, MSB.", 20 R/~{W} (in) "Active Low to Write Data to DAC. Active high to readback previous data at data bit pins with VLOGIC connected to 5 V.", 21 A1 (in) "Address Bit 1.", 22 A0 (in) "Address Bit 0.", 23 ~{CS} (in) "Chip Select, Enabled at Active Low.", 24 VLOGIC (power) "Voltage Supply for Readback Function. Can be open circuit if not used.", 25 VDD (power) "Upper Rail Power Supply.", 26 VOUTD (out) "DAC D Output.", 27 VOUTC (out) "DAC C Output.", 28 VREFL (in) "Low-Side DAC Reference Input."

## 5962-9176403MXA
designator U?
Quad 12-Bit Microcircuit Digital-Liner Digital-to-Analog Converter, -55 to +125 degC, Q-28-2, Tube; Generic Part Number: DAC8413; Manufacturer: Analog Devices; PartNumber: 5962-9176403MXA; # DAC Outputs: 4; Max V+: 15.75V; Op Pwr Diss: 330mW; Resolution (Bits): 12; Settling Time: 6µs; Single Supply: Yes; DatasheetVersion: Rev.B; PackageVersion: 030106-A; PackageReference: Q-28-2; PackageDescription: 28-Lead Ceramic Dual In-Line Package [CERDIP]; Supplier 1: Mouser; Supplier Part Number 1: 584-5962-9176403MXA; Packing: Tube; RoHS: N; Mounting Technology: Through Hole; ComponentLink1Description: Manufacturer URL; ComponentLink1URL: http://www.analog.com/en/index.html; ComponentLink2Description: Datasheet; ComponentLink2URL: http://www.dscc.dla.mil/Downloads/MilSpec/Smd/91764.pdf; ComponentLink3Description: Package Specification; ComponentLink3URL: http://www.analog.com/static/imported-files/packages/4045339666127361303Q_28_2.pdf; ComponentLink4Description: Product URL; ComponentLink4URL: http://www.analog.com/en/digital-to-analog-converters/da-converters/dac8413/products/product.html
footprint Q-28-2 (DIP, 28-Leads, Row Spacing 15.24mm, Pitch 2.54mm, Body 37.2x14.1mm)
pins: 1 VREFH (in) "High-Side DAC Reference Input.", 2 VOUTB (out) "DAC B Output.", 3 VOUTA (out) "DAC A Output.", 4 VSS (power) "Lower Rail Power Supply.", 5 DGND (power) "Digital Ground.", 6 ~{RESET} (in) "Reset Input and Output Registers to all 0s, Enabled at Active Low.", 7 ~{LDAC} (in) "Load Data to DAC, Enabled at Active Low.", 8 DB0 (io) "Data Bit 0, LSB.", 9 DB1 (io) "Data Bit 1.", 10 DB2 (io) "Data Bit 2.", 11 DB3 (io) "Data Bit 3.", 12 DB4 (io) "Data Bit 4.", 13 DB5 (io) "Data Bit 5.", 14 DB6 (io) "Data Bit 6.", 15 DB7 (io) "Data Bit 7.", 16 DB8 (io) "Data Bit 8.", 17 DB9 (io) "Data Bit 9.", 18 DB10 (io) "Data Bit 10.", 19 DB11 (io) "Data Bit 11, MSB.", 20 R/~{W} (in) "Active Low to Write Data to DAC. Active high to readback previous data at data bit pins with VLOGIC connected to 5 V.", 21 A1 (in) "Address Bit 1.", 22 A0 (in) "Address Bit 0.", 23 ~{CS} (in) "Chip Select, Enabled at Active Low.", 24 VLOGIC (power) "Voltage Supply for Readback Function. Can be open circuit if not used.", 25 VDD (power) "Upper Rail Power Supply.", 26 VOUTD (out) "DAC D Output.", 27 VOUTC (out) "DAC C Output.", 28 VREFL (in) "Low-Side DAC Reference Input."

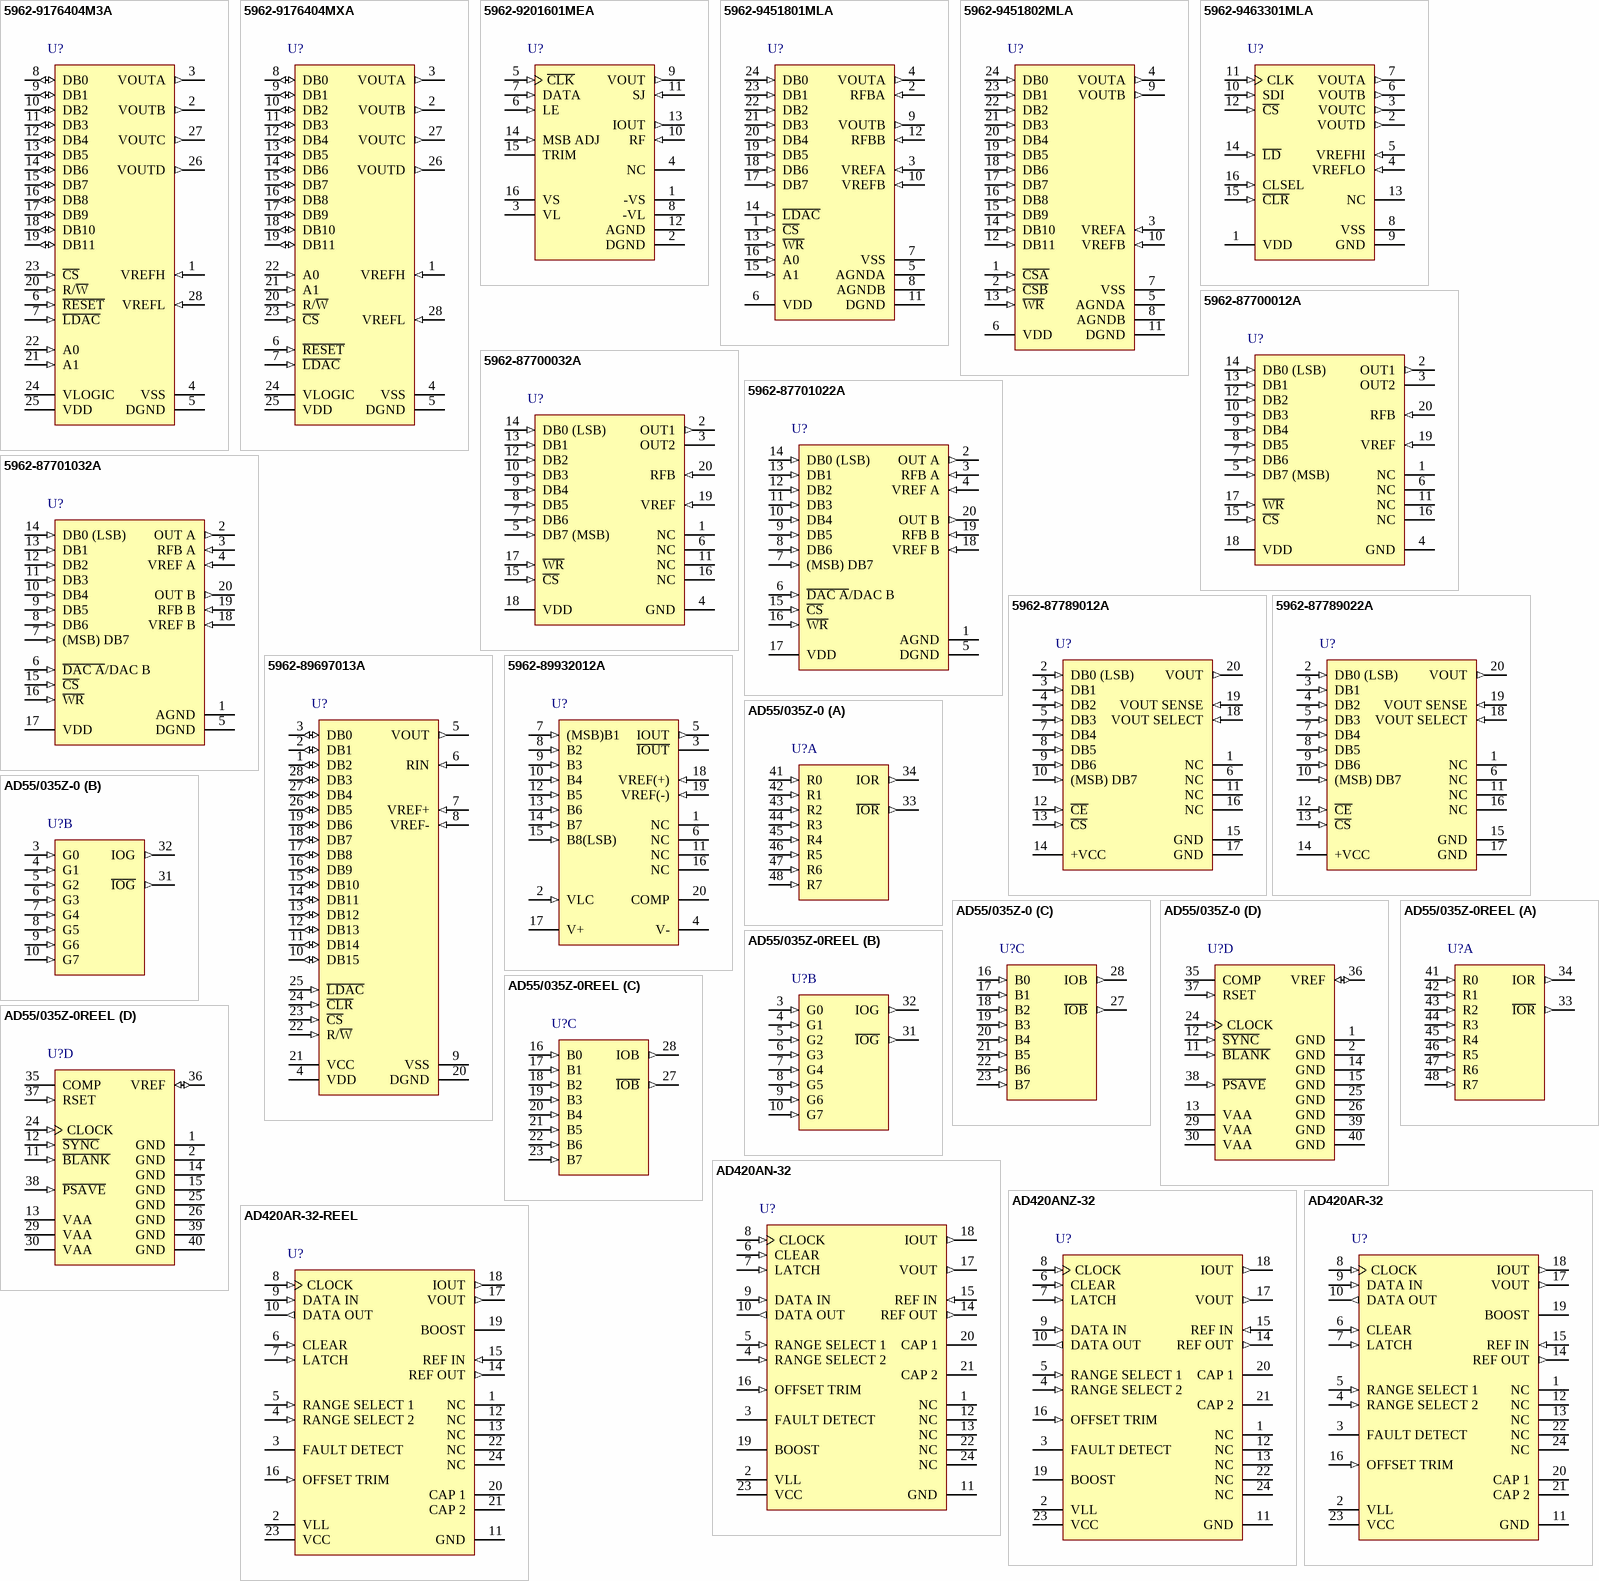
[diagram p1: symbols 5962-9176404M3A to AD420AR-32-REEL]

## 5962-9176404M3A
designator U?
Quad 12-Bit Microcircuit Digital-Liner Digital-to-Analog Converter, -55 to +125 degC, E-28-1, Tube; Generic Part Number: DAC8413; Manufacturer: Analog Devices; PartNumber: 5962-9176404M3A; # DAC Outputs: 4; Max V+: 15.75V; Op Pwr Diss: 330mW; Resolution (Bits): 12; Settling Time: 6µs; Single Supply: Yes; DatasheetVersion: Rev.B; PackageVersion: 022106-A; PackageReference: E-28-1; PackageDescription: 28-Terminal Ceramic Leadless Chip Carrier [LCC]; Supplier 1: Mouser; Supplier Part Number 1: 584-5962-9176404M3A; Packing: Tube; RoHS: N; Mounting Technology: Surface Mount; ComponentLink1Description: Manufacturer URL; ComponentLink1URL: http://www.analog.com/en/index.html; ComponentLink2Description: Datasheet; ComponentLink2URL: http://www.dscc.dla.mil/Downloads/MilSpec/Smd/91764.pdf; ComponentLink3Description: Package Specification; ComponentLink3URL: http://www.analog.com/static/imported-files/packages/PKG_PDF/LCC(E)/E_28_1.pdf; ComponentLink4Description: Product URL; ComponentLink4URL: http://www.analog.com/en/digital-to-analog-converters/da-converters/dac8413/products/product.html
footprint E-28-1_N (Leadless Chip Carrier, 28-Leads, Body 11.4x11.4mm, Pitch 1.27mm, IPC Medium Density)
footprint E-28-1_L (Leadless Chip Carrier, 28-Leads, Body 11.4x11.4mm, Pitch 1.27mm, IPC High Density)
footprint E-28-1_M (Leadless Chip Carrier, 28-Leads, Body 11.4x11.4mm, Pitch 1.27mm, IPC Low Density)
pins: 1 VREFH (in) "High-Side DAC Reference Input.", 2 VOUTB (out) "DAC B Output.", 3 VOUTA (out) "DAC A Output.", 4 VSS (power) "Lower Rail Power Supply.", 5 DGND (power) "Digital Ground.", 6 ~{RESET} (in) "Reset Input and Output Registers to all 0s, Enabled at Active Low.", 7 ~{LDAC} (in) "Load Data to DAC, Enabled at Active Low.", 8 DB0 (io) "Data Bit 0, LSB.", 9 DB1 (io) "Data Bit 1.", 10 DB2 (io) "Data Bit 2.", 11 DB3 (io) "Data Bit 3.", 12 DB4 (io) "Data Bit 4.", 13 DB5 (io) "Data Bit 5.", 14 DB6 (io) "Data Bit 6.", 15 DB7 (io) "Data Bit 7.", 16 DB8 (io) "Data Bit 8.", 17 DB9 (io) "Data Bit 9.", 18 DB10 (io) "Data Bit 10.", 19 DB11 (io) "Data Bit 11, MSB.", 20 R/~{W} (in) "Active Low to Write Data to DAC. Active high to readback previous data at data bit pins with VLOGIC connected to 5 V.", 21 A1 (in) "Address Bit 1.", 22 A0 (in) "Address Bit 0.", 23 ~{CS} (in) "Chip Select, Enabled at Active Low.", 24 VLOGIC (power) "Voltage Supply for Readback Function. Can be open circuit if not used.", 25 VDD (power) "Upper Rail Power Supply.", 26 VOUTD (out) "DAC D Output.", 27 VOUTC (out) "DAC C Output.", 28 VREFL (in) "Low-Side DAC Reference Input."

## 5962-9176404MXA
designator U?
Quad 12-Bit Microcircuit Digital-Liner Digital-to-Analog Converter, -55 to +125 degC, Q-28-2, Tube; Generic Part Number: DAC8413; Manufacturer: Analog Devices; PartNumber: 5962-9176404MXA; # DAC Outputs: 4; Max V+: 15.75V; Op Pwr Diss: 330mW; Resolution (Bits): 12; Settling Time: 6µs; Single Supply: Yes; DatasheetVersion: Rev.B; PackageVersion: 030106-A; PackageReference: Q-28-2; PackageDescription: 28-Lead Ceramic Dual In-Line Package [CERDIP]; Supplier 1: Mouser; Supplier Part Number 1: 584-5962-9176404MXA; Packing: Tube; RoHS: N; Mounting Technology: Through Hole; ComponentLink1Description: Manufacturer URL; ComponentLink1URL: http://www.analog.com/en/index.html; ComponentLink2Description: Datasheet; ComponentLink2URL: http://www.dscc.dla.mil/Downloads/MilSpec/Smd/91764.pdf; ComponentLink3Description: Package Specification; ComponentLink3URL: http://www.analog.com/static/imported-files/packages/4045339666127361303Q_28_2.pdf; ComponentLink4Description: Product URL; ComponentLink4URL: http://www.analog.com/en/digital-to-analog-converters/da-converters/dac8413/products/product.html
footprint Q-28-2 (DIP, 28-Leads, Row Spacing 15.24mm, Pitch 2.54mm, Body 37.2x14.1mm)
pins: 1 VREFH (in) "High-Side DAC Reference Input.", 2 VOUTB (out) "DAC B Output.", 3 VOUTA (out) "DAC A Output.", 4 VSS (power) "Lower Rail Power Supply.", 5 DGND (power) "Digital Ground.", 6 ~{RESET} (in) "Reset Input and Output Registers to all 0s, Enabled at Active Low.", 7 ~{LDAC} (in) "Load Data to DAC, Enabled at Active Low.", 8 DB0 (io) "Data Bit 0, LSB.", 9 DB1 (io) "Data Bit 1.", 10 DB2 (io) "Data Bit 2.", 11 DB3 (io) "Data Bit 3.", 12 DB4 (io) "Data Bit 4.", 13 DB5 (io) "Data Bit 5.", 14 DB6 (io) "Data Bit 6.", 15 DB7 (io) "Data Bit 7.", 16 DB8 (io) "Data Bit 8.", 17 DB9 (io) "Data Bit 9.", 18 DB10 (io) "Data Bit 10.", 19 DB11 (io) "Data Bit 11, MSB.", 20 R/~{W} (in) "Active Low to Write Data to DAC. Active high to readback previous data at data bit pins with VLOGIC connected to 5 V.", 21 A1 (in) "Address Bit 1.", 22 A0 (in) "Address Bit 0.", 23 ~{CS} (in) "Chip Select, Enabled at Active Low.", 24 VLOGIC (power) "Voltage Supply for Readback Function. Can be open circuit if not used.", 25 VDD (power) "Upper Rail Power Supply.", 26 VOUTD (out) "DAC D Output.", 27 VOUTC (out) "DAC C Output.", 28 VREFL (in) "Low-Side DAC Reference Input."

## 5962-9201601MEA
designator U?
Single 16-Bit DSP DACPORT, 0 to +70 degC, D-16, Tube; Generic Part Number: AD766; Manufacturer: Analog Devices; PartNumber: 5962-9201601MEA; # DAC Outputs: 1; Max V+: 13.2V; Op Pwr Diss: 150mW; Resolution (Bits): 16; Settling Time: 1.5µs; Single Supply: No; DatasheetVersion: Rev.A; PackageVersion: Oct-2004; PackageReference: D-16; PackageDescription: 16-Lead Side-Brazed Ceramic Dual In-Line Package [SBDIP]; Supplier 1: Mouser; Supplier Part Number 1: 584-5962-9201601MEA; Packing: Tube; RoHS: N; Mounting Technology: Through Hole; ComponentLink1Description: Manufacturer URL; ComponentLink1URL: http://www.analog.com/en/index.html; ComponentLink2Description: Datasheet; ComponentLink2URL: http://www.analog.com/static/imported-files/data_sheets/AD766.pdf; ComponentLink3Description: Package Specification; ComponentLink3URL: http://www.analog.com/static/imported-files/packages/411773807540737148809448D_16.pdf; ComponentLink4Description: Product URL; ComponentLink4URL: http://www.analog.com/en/digital-to-analog-converters/da-converters/ad766/products/product.html
footprint D-16 (DIP, 16-Leads, Row Spacing 7.62mm, Pitch 2.54mm, Body 21.3x6.7mm)
pins: 1 -VS (power) "Analog Negative Power Supply", 2 DGND (power) "Digital Ground", 3 VL (power) "Logic Positive Power Supply", 4 NC "No Connection", 5 ~{CLK} (in) "Clock Input", 6 LE (in) "Latch Enable Input", 7 DATA (in) "Serial Data Input", 8 -VL (power) "Logic Negative Power Supply", 9 VOUT (out) "Voltage Output", 10 RF (in) "Feedback Resistor", 11 SJ (in) "Summing Junction", 12 AGND (power) "Analog Ground", 13 IOUT (out) "Current Output", 14 MSB ADJ (in) "MSB Adjustment Terminal", 15 TRIM "MSB Trimming Potentiometer Terminal", 16 VS (power) "Analog Positive Power Supply"